# Altium footprint library E77-915M30S.PcbLib: 1 footprints
Each footprint in its own frame and in the unit in brackets; x right, y up, seen from the top. Pads: shape width x height; smd on the part's side, far side on the other; paste and mask are expansions set on the pad; w line width, h text height; cw(c..) or ccw(c..) is an arc to the next point about the centre after c.
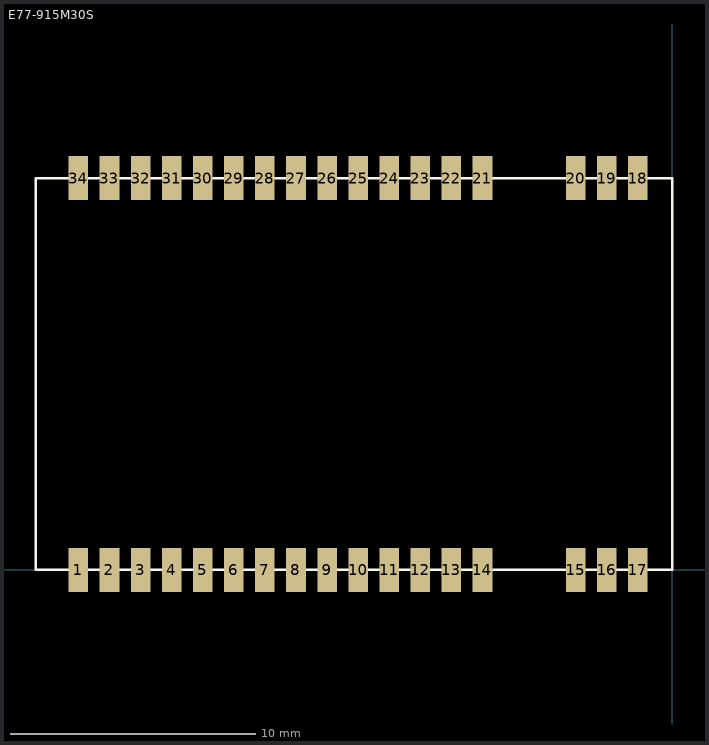
[diagram p0: the footprint, top view; thin cyan lines are the x and y axes]

## E77-915M30S [mm]
pads (34):
  rect 0.8x1.8 smd: 1(-24.26,0) 2(-22.99,0) 3(-21.72,0) 4(-20.45,0) 5(-19.18,0) 6(-17.91,0) 7(-16.64,0) 8(-15.37,0) 9(-14.1,0) 10(-12.83,0) 11(-11.56,0) 12(-10.29,0) 13(-9.02,0) 14(-7.75,0) 15(-3.94,0) 16(-2.67,0) 17(-1.4,0) 18(-1.4,16) 19(-2.67,16) 20(-3.94,16) 21(-7.75,16) 22(-9.02,16) 23(-10.29,16) 24(-11.56,16) 25(-12.83,16) 26(-14.1,16) 27(-15.37,16) 28(-16.64,16) 29(-17.91,16) 30(-19.18,16) 31(-20.45,16) 32(-21.72,16) 33(-22.99,16) 34(-24.26,16)
Top Overlay:
  lines w0.1: -26,0 -26,16 0,16 0,0 -26,0